# EAGLE library part QFM-TRX1-24G (library untitled)
2.4 GHz Transceiver Module / Quasar UK RF Subsystem
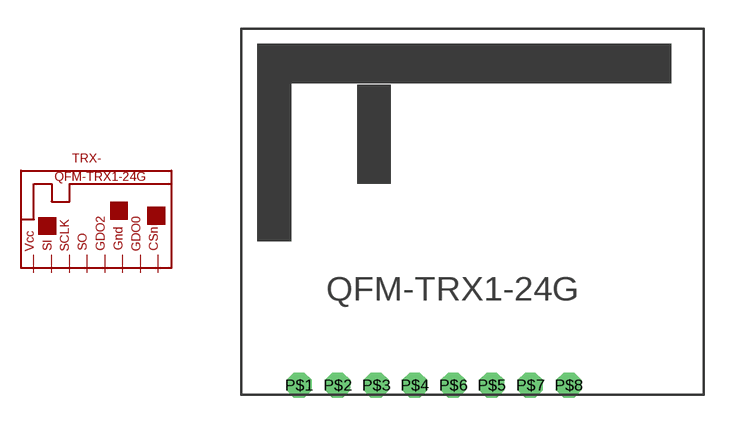
[diagram p0: symbol with the pads of QFM; footprint QFM]

Designator prefix TRX-

## QFM-TRX1-24G  [QFM]
P$1  P$1  pwr
P$2  P$2  in
P$3  P$3  in
P$4  P$4  out
P$5  P$5  out
P$6  P$6  pwr
P$7  P$7
P$8  P$8  in

## Footprint QFM (pad centres in mm)
2,4 GHz Transceiver Module
drill 0.8 octagon: P$1 -9,-9; P$2 -7,-9; P$3 -5,-9; P$4 -3,-9; P$5 1,-9; P$6 -1,-9; P$7 3,-9; P$8 5,-9